# Altium footprint library UCDFR Passives.PcbLib: 35 footprints (part 1 of 3)
Each footprint in its own frame and in the unit in brackets; x right, y up, seen from the top. Pads: shape width x height; smd on the part's side, far side on the other; paste and mask are expansions set on the pad; w line width, h text height; cw(c..) or ccw(c..) is an arc to the next point about the centre after c.
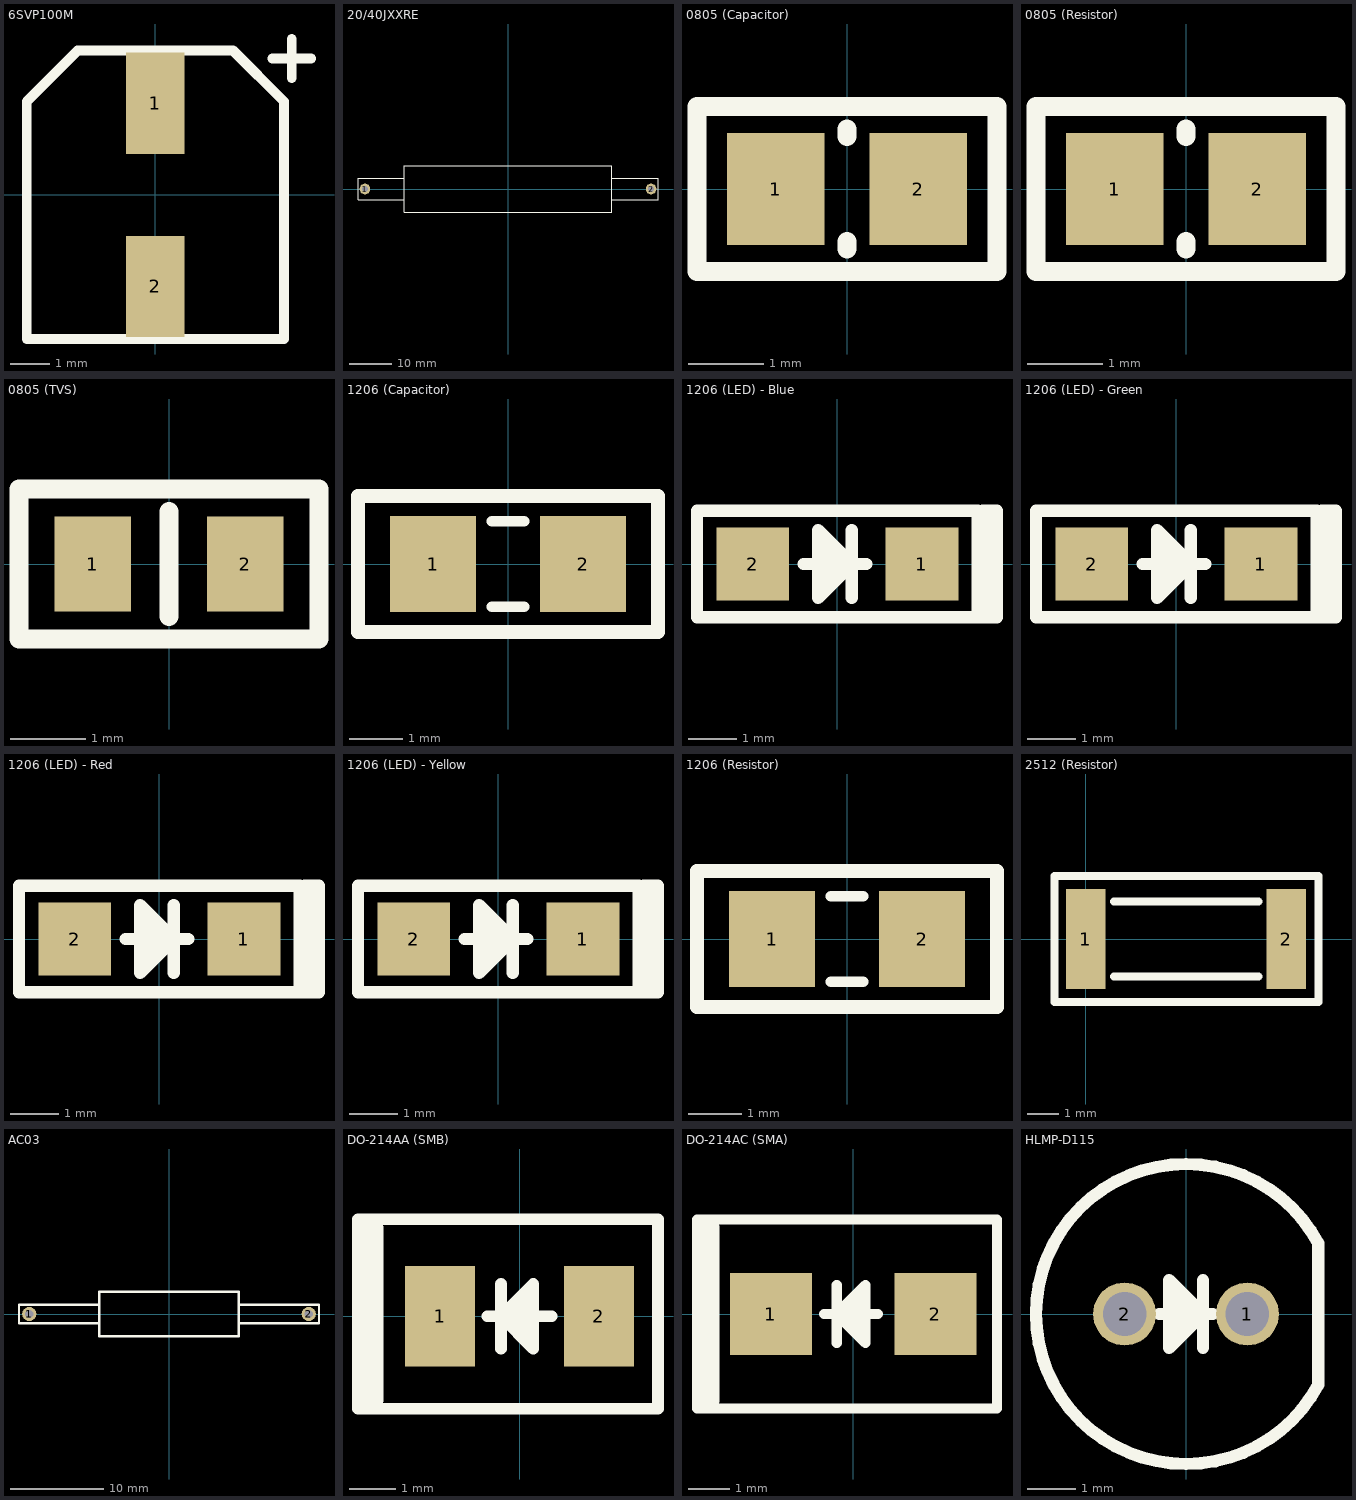
[diagram p0: the footprints below, top view; thin cyan lines are the x and y axes]

## 6SVP100M [mm] "Panasonic, Capacitor, Aluminum"
height 6
pads (2):
  rect 1.5x2.6 smd: 1(0,2.35) 2(0,-2.35)
Top Overlay:
  lines w0.254: 3,3.5 4,3.5 ; 3.5,3 3.5,4 ; -3.3,-3.7 -3.3,2.4 -2,3.7 2,3.7 3.3,2.4 3.3,-3.7 -3.3,-3.7

## 20/40JXXRE [mm] "Ohmite Power Resistor"
pads (2):
  round 2.5 hole 1.5: 1(-33.76,0) 2(33.76,0)
Top Overlay:
  lines w0.254: -24.5,-2.5 -35.4,-2.5 -35.4,2.5 -24.5,2.5 ; 24.5,-2.5 35.4,-2.5 35.4,2.5 24.5,2.5 ; -24.5,-5.5 -24.5,5.5 24.5,5.5 24.5,-5.5 -24.5,-5.5

## 0805 (Capacitor) [mm] "0805"
height 0.6
pads (2):
  rect 1.3x1.5 smd: 1(-0.95,0) 2(0.95,0)
Top Overlay:
  lines w0.254: 0,-0.8 0,-0.7 ; 0,0.7 0,0.8 ; -2,-1.1 2,-1.1 2,1.1 -2,1.1 -2,-1.1
3D body: height 1.02, standoff -0.03, extent -1,-0.65 1,0.651

## 0805 (Resistor) [mm]
pads (2):
  rect 1.3x1.5 smd: 1(-0.95,0) 2(0.95,0)
Top Overlay:
  lines w0.254: 0,-0.8 0,-0.7 ; 0,0.7 0,0.8 ; -2,-1.1 2,-1.1 2,1.1 -2,1.1 -2,-1.1
3D body: height 0.63, standoff -0.03, extent -1,-0.65 1,0.651

## 0805 (TVS) [mm] "AVX, 0805, TVS Diode"
pads (2):
  rect 1.02x1.27 smd: 1(-1.015,0) 2(1.015,0)
Top Overlay:
  lines w0.254: 0,-0.7 0,0.7 ; -2,-1 2,-1 2,1 -2,1 -2,-1
3D body: height 1.05, standoff -0.03, extent -1.056,-0.65 1.056,0.651

## 1206 (Capacitor) [mm] "1206"
height 0.6
pads (2):
  rect 1.6x1.8 smd: 1(-1.4,0) 2(1.4,0)
Top Overlay:
  lines w0.2: -0.3,-0.8 0.3,-0.8 ; -0.3,0.8 0.3,0.8
  lines w0.254: -2.8,-1.27 -2.8,1.27 -1.57,1.27 1.23,1.27 2.8,1.27 2.8,-1.27 -2.8,-1.27
3D body: height 1.05, standoff -0.03, extent -1.6,-0.825 1.6,0.826

## 1206 (LED) - Blue [mm] "OptoElectronics, 1206, LED, Blue"
pads (2):
  rect 1.5x1.5 smd: 1(1.75,0) 2(-1.75,0)
Top Overlay:
  lines w0.254: -0.7,0 -0.2,0 -0.2,-0.3 ; 0,-0.1 0,0 -0.2,0.2 -0.2,0.5 -0.4,0.7 ; 0.3,-0.7 0.3,0.7 ; 0.6,0 0.3,0 ; -0.4,0.7 -0.4,-0.7 0.3,0 ; -0.4,0.7 0.3,0 ; 2.9,-1.1 -2.9,-1.1 -2.9,1.1 2.9,1.1 2.9,-1.1 ; 2.9,-1.1 3.1,-1.1 ; 3.1,-1.1 3.3,-1.1 3.3,1.1 3,1.1 3.1,1 3.1,-1.1
3D body: height 1.1, standoff 0, extent -1.6,-0.8 1.6,0.8

## 1206 (LED) - Green [mm] "OptoElectronics, 1206, LED, Green"
pads (2):
  rect 1.5x1.5 smd: 1(1.75,0) 2(-1.75,0)
Top Overlay:
  lines w0.254: -0.7,0 -0.2,0 -0.2,-0.3 ; 0,-0.1 0,0 -0.2,0.2 -0.2,0.5 -0.4,0.7 ; 0.3,-0.7 0.3,0.7 ; 0.6,0 0.3,0 ; -0.4,0.7 0.3,0 ; -0.4,0.7 -0.4,-0.7 0.3,0 ; 2.9,-1.1 3.1,-1.1 ; 2.9,-1.1 2.9,1.1 -2.9,1.1 -2.9,-1.1 2.9,-1.1 ; 3.1,-1.1 3.1,1 3,1.1 3.3,1.1 3.3,-1.1 3.1,-1.1
3D body: height 1.1, standoff 0, extent -1.6,-0.8 1.6,0.8

## 1206 (LED) - Red [mm] "OptoElectronics, 1206, LED, Red"
pads (2):
  rect 1.5x1.5 smd: 1(1.75,0) 2(-1.75,0)
Top Overlay:
  lines w0.254: -0.7,0 -0.2,0 -0.2,-0.3 ; 0,-0.1 0,0 -0.2,0.2 -0.2,0.5 -0.4,0.7 ; 0.3,-0.7 0.3,0.7 ; 0.6,0 0.3,0 ; -0.4,0.7 0.3,0 ; -0.4,0.7 -0.4,-0.7 0.3,0 ; 2.9,-1.1 3.1,-1.1 ; 2.9,-1.1 2.9,1.1 -2.9,1.1 -2.9,-1.1 2.9,-1.1 ; 3.1,-1.1 3.1,1 3,1.1 3.3,1.1 3.3,-1.1 3.1,-1.1
3D body: height 1.1, standoff 0, extent -1.6,-0.8 1.6,0.8

## 1206 (LED) - Yellow [mm] "OptoElectronics, 1206, LED, Yellow"
pads (2):
  rect 1.5x1.5 smd: 1(1.75,0) 2(-1.75,0)
Top Overlay:
  lines w0.254: -0.7,0 -0.2,0 -0.2,-0.3 ; 0,-0.1 0,0 -0.2,0.2 -0.2,0.5 -0.4,0.7 ; 0.3,-0.7 0.3,0.7 ; 0.6,0 0.3,0 ; -0.4,0.7 -0.4,-0.7 0.3,0 ; -0.4,0.7 0.3,0 ; 2.9,-1.1 -2.9,-1.1 -2.9,1.1 2.9,1.1 2.9,-1.1 ; 2.9,-1.1 3.1,-1.1 ; 3.1,-1.1 3.3,-1.1 3.3,1.1 3,1.1 3.1,1 3.1,-1.1
3D body: height 1.1, standoff 0, extent -1.6,-0.8 1.6,0.8

## 1206 (Resistor) [mm] "1206"
height 0.6
pads (2):
  rect 1.6x1.8 smd: 1(-1.4,0) 2(1.4,0)
Top Overlay:
  lines w0.2: -0.3,-0.8 0.3,-0.8 ; -0.3,0.8 0.3,0.8
  lines w0.254: -2.8,-1.27 2.8,-1.27 2.8,1.27 1.23,1.27 -1.57,1.27 -2.8,1.27 -2.8,-1.27
3D body: height 0.65, standoff -0.03, extent -1.6,-0.825 1.6,0.826

## 2512 (Resistor) [mm] "2512"
height 0.6
pads (2):
  rect 1.25x3.175 smd: 1(0,0) 2(6.375,0)
Top Overlay:
  lines w0.254: 0.9,-1.2 5.5,-1.2 ; 0.9,1.2 5.5,1.2 ; -1,-2 -1,2 7.4,2 7.4,-2 -1,-2
3D body: height 0.75, standoff -0.01, extent -0.03,-1.686 6.37,1.666

## AC03 [mm] "Vishay AC03 Power Resistor"
pads (2):
  round 1.524 hole 0.9: 1(-15,0) 2(15,0)
Top Overlay:
  lines w0.254: -7.5,-1 -16.1,-1 -16.1,1 -7.5,1 ; 7.5,1 16.1,1 16.1,-1 7.6,-1 ; -7.5,-2.4 7.5,-2.4 7.5,2.4 -7.5,2.4 -7.5,-2.4
3D body: height 4.9, standoff -1.88, extent -15.402,-2.4 15.403,2.4

## DO-214AA (SMB) [mm] "Diode DO-214AA Package"
height 2.44
pads (2):
  rect 1.52x2.18 smd: 1(-1.72,0) 2(1.72,0)
Top Overlay:
  lines w0.254: -0.7,0 -0.4,0 ; -0.4,-0.7 -0.4,0.7 ; -0.1,0.1 -0.1,0 0.1,-0.2 ; 0.1,0.3 0.1,-0.2 ; 0.2,0 0.7,0 ; -0.4,0 0.3,-0.7 ; -0.4,0 0.3,0.7 0.3,-0.7 ; 0.1,-0.2 0.1,-0.5 0.3,-0.7 ; -3.5,-2 3,-2 3,2.1 -3.5,2.1 -3.5,1.5 -3.5,-2
  lines w0.5: -3.2,-1.8 -3.2,1.9
3D body: height 2.44, standoff 0.04, extent -2.837,-1.9 2.837,2.037

## DO-214AC (SMA) [mm] "Diode DO-214AC Package"
height 2.1
pads (2):
  rect 2x2 smd: 1(-2,0) 2(2,0)
Top Overlay:
  lines w0.254: -0.7,0 -0.4,0 ; -0.4,-0.7 -0.4,0.7 ; -0.1,0.1 -0.1,0 0.1,-0.2 ; 0.1,0.3 0.1,-0.2 ; 0.2,0 0.6,0 ; -0.4,0 0.3,0.7 0.3,-0.7 ; -0.4,0 0.3,-0.7 ; 0.1,-0.2 0.1,-0.5 0.3,-0.7 ; -3.8,-2.3 -3.8,2.3 -2.7,2.3 3.5,2.3 3.5,-2.3 -3.8,-2.3
  lines w0.5: -3.5,-2.1 -3.5,2.1
3D body: height 2.44, standoff 0.04, extent -2.837,-1.969 2.837,1.969

## HLMP-D115 [mm] "High Efficiency Red LED"
pads (2):
  round 1.3 hole 0.9: 1(1.27,0) 2(-1.27,0)
Top Overlay:
  lines w0.254: -0.55,0 -0.15,0 -0.15,-0.3 ; 0.05,-0.1 0.05,0 -0.15,0.2 -0.15,0.5 -0.35,0.7 ; 0.35,-0.7 0.35,0.7 ; 0.55,0 0.35,0 ; -0.35,0.7 0.35,0 ; -0.35,0.7 -0.35,-0.7 0.35,0 ; 2.733,-1.464 cw(c0,0) 2.733,1.464 2.733,-1.464
3D body: height 11.85, standoff -24.75, extent -2.9,-2.9 2.5,2.9